# EAGLE library part MDSSV-BD08 (library con-yamaichi)
YAMAICHI CONNECTOR
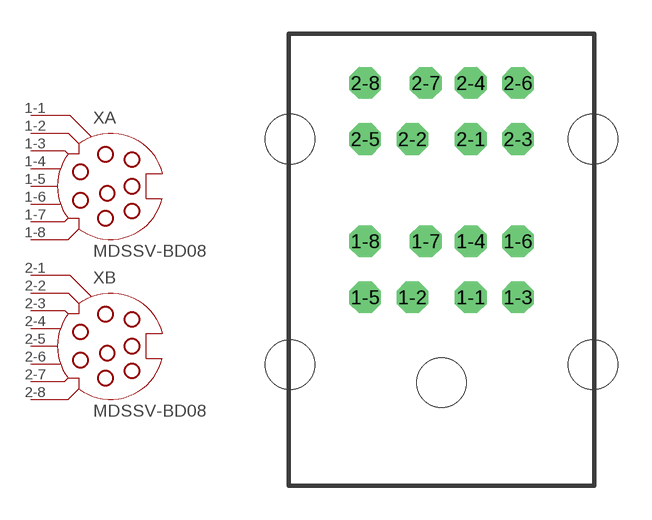
[diagram p26: symbol with the pads of SSV-BD08; footprint SSV-BD08]

Designator prefix X; gates A=SSV-BC08 B=SSV-BC08

## MDSSV-BD08 (OC_FARNELL: unknown; OC_NEWARK: unknown)  [SSV-BD08]
1-1  A:1  pas
1-2  A:2  pas
1-3  A:3  pas
1-4  A:4  pas
1-5  A:5  pas
1-6  A:6  pas
1-7  A:7  pas
1-8  A:8  pas
2-1  B:1  pas
2-2  B:2  pas
2-3  B:3  pas
2-4  B:4  pas
2-5  B:5  pas
2-6  B:6  pas
2-7  B:7  pas
2-8  B:8  pas

## Footprint SSV-BD08 (pad centres in mm)
Mini Din YAMAICHI CONNECTOR
drill 0.9 octagon: 1-1 1.3,8.5; 1-2 -1.3,8.5; 1-3 3.4,8.5; 1-4 1.3,11; 1-5 -3.4,8.5; 1-6 3.4,11; 1-7 -0.7,11; 1-8 -3.4,11; 2-1 1.3,15.55; 2-2 -1.3,15.55; 2-3 3.4,15.55; 2-4 1.3,18.05; 2-5 -3.4,15.55; 2-6 3.4,18.05; 2-7 -0.7,18.05; 2-8 -3.4,18.05
hole 2.2 at -6.75,5.5
hole 2.2 at 0,4.7
hole 2.2 at 6.75,5.5
hole 2.2 at -6.75,15.55
hole 2.2 at 6.75,15.55